# EAGLE library part LTC3446 (library PowerProducts)
LT-Spice library generated with : ltspice.ulp from: D:/Program Files (x86)/LTC/LTspiceIV/lib/sym/PowerProducts/LTC3452*.asy at 07.10.2012 18:09:42
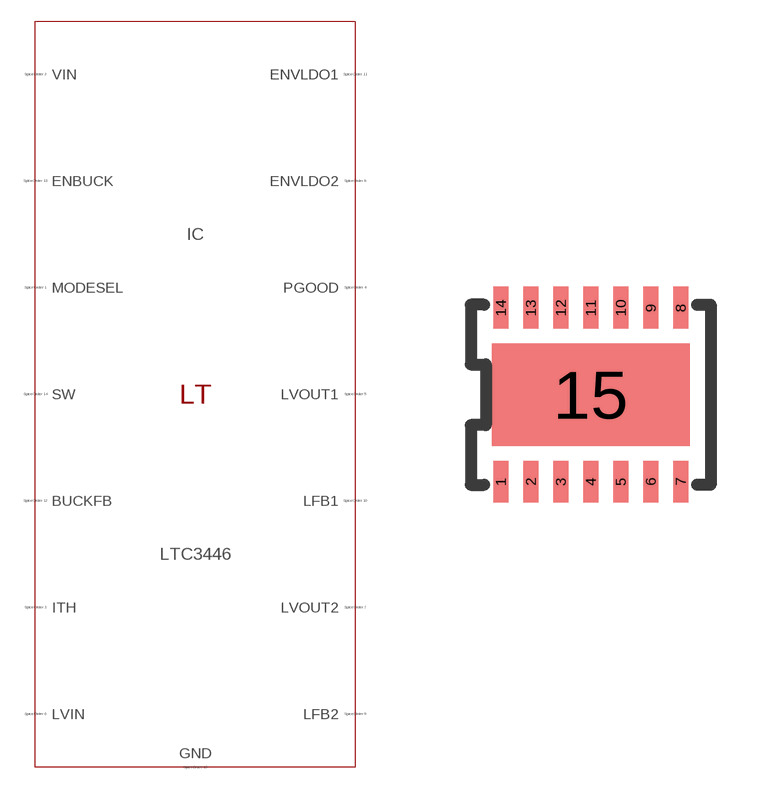
[diagram p190: symbol with the pads of DFN14(DE); footprint DFN14(DE)]

Designator prefix IC

## LTC3446 (SPICEMODEL: LTC3446.sub; SPICEPREFIX: X; VALUE2: LTC3446)  [DFN14(DE)]
1  MODESEL  pas
2  VIN  pas
3  ITH  pas
4  PGOOD  pas
5  LVOUT1  pas
6  LVIN  pas
7  LVOUT2  pas
8  ENVLDO2  pas
9  LFB2  pas
10  LFB1  pas
11  ENVLDO1  pas
12  BUCKFB  pas
13  ENBUCK  pas
14  SW  pas
15  GND  pas

## Footprint DFN14(DE) (pad centres in mm)
Package generated from: DFN14(DE).asc (!PADS-POWERPCB-V5.0-BASIC! DESIGN DATABASE ASCII FILE 1.0) with :import-pads-powerpcb-v5.ulp Version 1.0.1 at 04.10.2012 14:11:16
smd 0.375 x 1.05: 1 -2.25,-2.175; 2 -1.5,-2.175; 3 -0.75,-2.175; 4 0,-2.175; 5 0.75,-2.175; 6 1.5,-2.175; 7 2.25,-2.175; 8 2.25,2.175; 9 1.5,2.175; 10 0.75,2.175; 11 0,2.175; 12 -0.75,2.175; 13 -1.5,2.175; 14 -2.25,2.175
smd 4.95 x 2.55: 15 0,0